# EAGLE library part AD8476ACPZ-R7 (library AD8476)
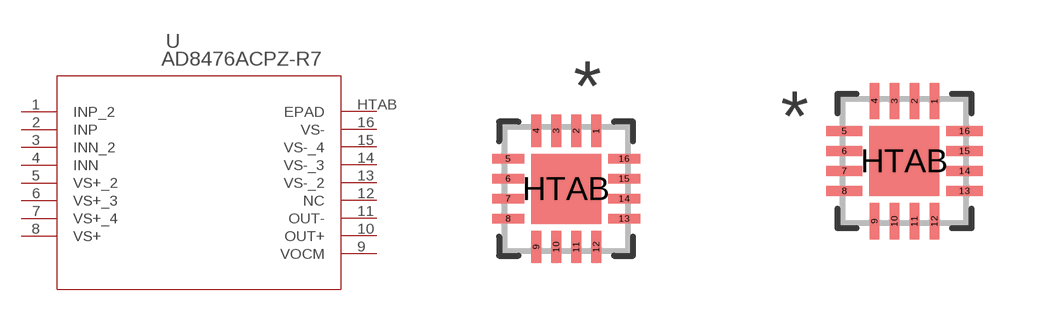
[diagram p2: symbol with the pads of CP_16_25_ADI; footprints CP_16_25_ADI, CP_16_25_ADI-M]

Designator prefix U

## AD8476ACPZ-R7 (COPYRIGHT: Copyright (C) 2023 Ultra Librarian. All rights reserved.; MANUFACTURER_PART_NUMBER: AD8476ACPZ-R7; MFR_NAME: Analog Devices Inc)  [CP_16_25_ADI]
1  INP_2  in
2  INP  in
3  INN_2  in
4  INN  in
5  VS+_2  pwr
6  VS+_3  pwr
7  VS+_4  pwr
8  VS+  pwr
9  VOCM  out
10  OUT+  out
11  OUT-  out
12  NC  nc
13  VS-_2  pwr
14  VS-_3  pwr
15  VS-_4  pwr
16  VS-  pwr
HTAB  EPAD  pas

## AD8476ACPZ-R7CP_16_25_ADI-M (COPYRIGHT: Copyright (C) 2023 Ultra Librarian. All rights reserved.; MANUFACTURER_PART_NUMBER: AD8476ACPZ-R7; MFR_NAME: Analog Devices Inc)  [CP_16_25_ADI-M]
Pads as for CP_16_25_ADI

## AD8476ACPZ-R7CP_16_25_ADI-L (COPYRIGHT: Copyright (C) 2023 Ultra Librarian. All rights reserved.; MANUFACTURER_PART_NUMBER: AD8476ACPZ-R7; MFR_NAME: Analog Devices Inc)  [CP_16_25_ADI-L]
Pads as for CP_16_25_ADI

## Footprint CP_16_25_ADI (pad centres in mm)
smd 0.245 x 0.805: 1 0.75,1.452; 2 0.25,1.452; 3 -0.25,1.452; 4 -0.75,1.452; 9 -0.75,-1.452; 10 -0.25,-1.452; 11 0.25,-1.452; 12 0.75,-1.452
smd 0.805 x 0.245: 5 -1.452,0.75; 6 -1.452,0.25; 7 -1.452,-0.25; 8 -1.452,-0.75; 13 1.452,-0.75; 14 1.452,-0.25; 15 1.452,0.25; 16 1.452,0.75
smd 1.75 x 1.75: HTAB 0,0

## Footprint CP_16_25_ADI-M (pad centres in mm)
smd 0.245 x 0.906: 1 0.75,1.503; 2 0.25,1.503; 3 -0.25,1.503; 4 -0.75,1.503; 9 -0.75,-1.503; 10 -0.25,-1.503; 11 0.25,-1.503; 12 0.75,-1.503
smd 0.906 x 0.245: 5 -1.503,0.75; 6 -1.503,0.25; 7 -1.503,-0.25; 8 -1.503,-0.75; 13 1.503,-0.75; 14 1.503,-0.25; 15 1.503,0.25; 16 1.503,0.75
smd 1.75 x 1.75: HTAB 0,0

## Footprint CP_16_25_ADI-L (pad centres in mm)
smd 0.245 x 0.703: 1 0.75,1.402; 2 0.25,1.402; 3 -0.25,1.402; 4 -0.75,1.402; 9 -0.75,-1.402; 10 -0.25,-1.402; 11 0.25,-1.402; 12 0.75,-1.402
smd 0.703 x 0.245: 5 -1.402,0.75; 6 -1.402,0.25; 7 -1.402,-0.25; 8 -1.402,-0.75; 13 1.402,-0.75; 14 1.402,-0.25; 15 1.402,0.25; 16 1.402,0.75
smd 1.75 x 1.75: HTAB 0,0